# EAGLE library part AVRISP6 (library AWJLEagleLib)
Atmel AVR 6-pin ISP header
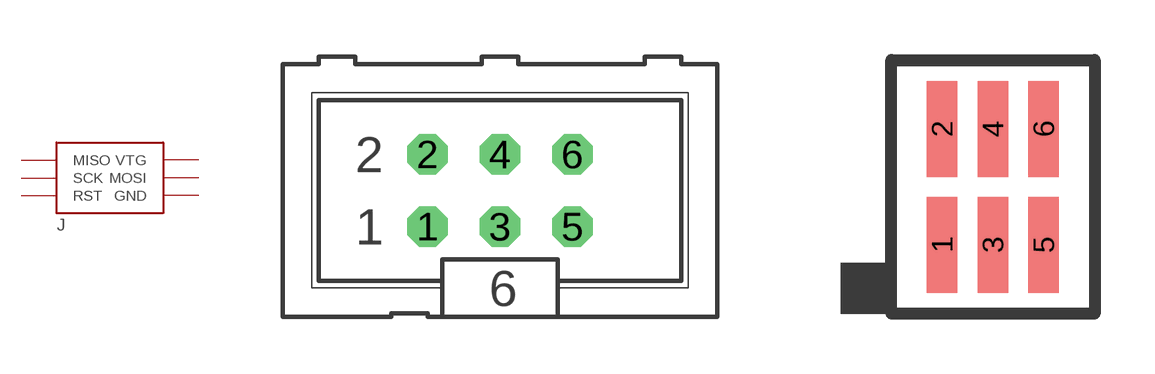
[diagram p19: symbol with the pads of ML6; footprints ML6, 3X2_PIN_1.27MM]

Designator prefix J

## AVRISP6IDC  [ML6]
1  MISO
2  VTG
3  SCK
4  MOSI
5  RST
6  GND

## AVRISP6SM127  [3X2_PIN_1.27MM]
Pads as for ML6

## Footprint ML6 (pad centres in mm)
drill 0.914 octagon: 1 -2.54,-1.27; 2 -2.54,1.27; 3 0,-1.27; 4 0,1.27; 5 2.54,-1.27; 6 2.54,1.27

## Footprint 3X2_PIN_1.27MM (pad centres in mm)
FCI 20021121-00006C4LF
smd 0.76 x 2.4: 1 -1.27,-1.45; 2 -1.27,1.45; 3 0,-1.45; 4 0,1.45; 5 1.27,-1.45; 6 1.27,1.45